# EAGLE library part CY8C28243 (library CypressPSoC_0.30)
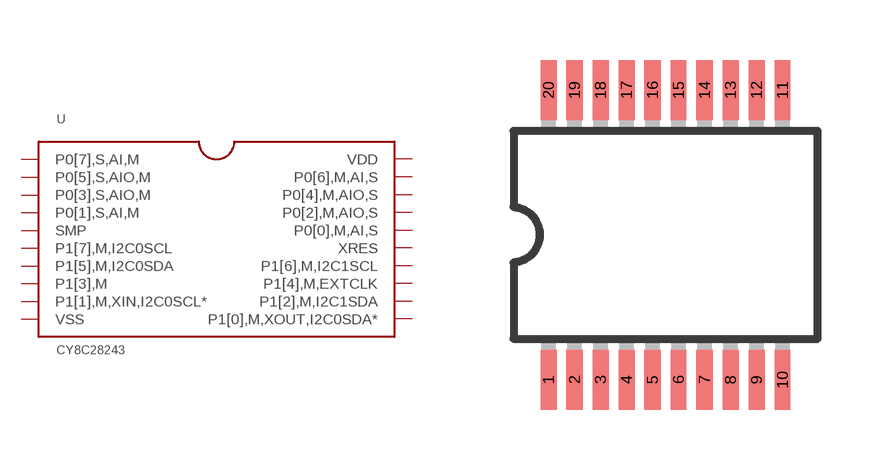
[diagram p14: symbol with the pads of SSOP20; footprint SSOP20]

Designator prefix -

## CY8C28243_SSOP20  [SSOP20]
1  P0[7],S,AI,M
2  P0[5],S,AIO,M
3  P0[3],S,AIO,M
4  P0[1],S,AI,M
5  SMP  pwr
6  P1[7],M,I2C0SCL
7  P1[5],M,I2C0SDA
8  P1[3],M
9  P1[1],M,XIN,I2C0SCL*
10  VSS  pwr
11  P1[0],M,XOUT,I2C0SDA*
12  P1[2],M,I2C1SDA
13  P1[4],M,EXTCLK
14  P1[6],M,I2C1SCL
15  XRES
16  P0[0],M,AI,S
17  P0[2],M,AIO,S
18  P0[4],M,AIO,S
19  P0[6],M,AI,S
20  VDD  pwr

## Footprint SSOP20 (pad centres in mm)
20-Lead Shrink Small Outline Package SSOP (RS-20) Source: http://www.analog.com/UploadedFiles/Data_Sheets/39677768AD7714_c.pdf Cut off extra pins to make 20.
smd 0.4 x 1.5: 1 -4.225,-3.625; 2 -3.575,-3.625; 3 -2.925,-3.625; 4 -2.275,-3.625; 5 -1.625,-3.625; 6 -0.975,-3.625; 7 -0.325,-3.625; 8 0.325,-3.625; 9 0.975,-3.625; 10 1.625,-3.625; 11 1.625,3.625; 12 0.975,3.625; 13 0.325,3.625; 14 -0.325,3.625; 15 -0.975,3.625; 16 -1.625,3.625; 17 -2.275,3.625; 18 -2.925,3.625; 19 -3.575,3.625; 20 -4.225,3.625